# Altium footprint library con-fci.PCBLIB: 3 footprints
Each footprint in its own frame and in the unit in brackets; x right, y up, seen from the top. Pads: shape width x height; smd on the part's side, far side on the other; paste and mask are expansions set on the pad; w line width, h text height; cw(c..) or ccw(c..) is an arc to the next point about the centre after c.
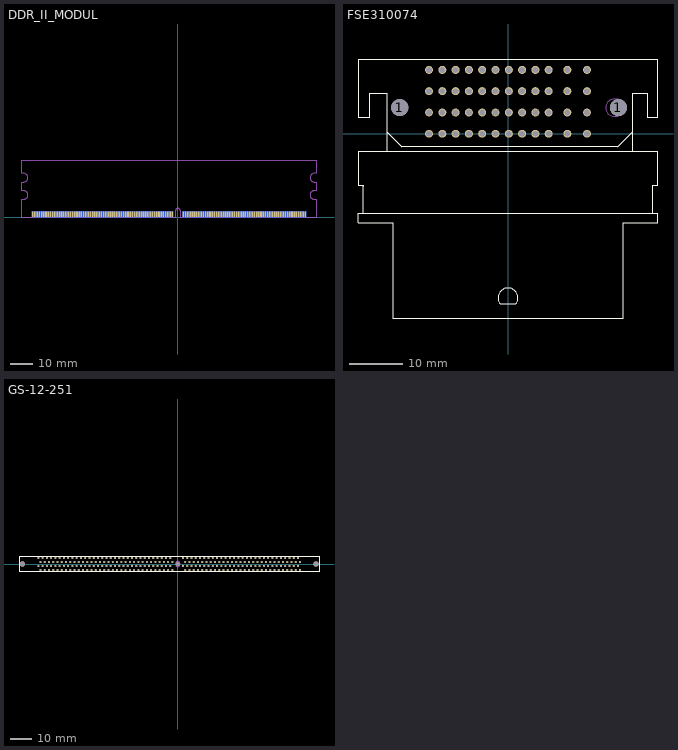
[diagram p0: the footprints below, top view; thin cyan lines are the x and y axes]

## DDR_II_MODUL [mm]
pads (240):
  rect 0.7x2.5 smd: 1(-65.5,1.3) 2(-64.5,1.3) 3(-63.5,1.3) 4(-62.5,1.3) 5(-61.5,1.3) 6(-60.5,1.3) 7(-59.5,1.3) 8(-58.5,1.3) 9(-57.5,1.3) 10(-56.5,1.3) 11(-55.5,1.3) 12(-54.5,1.3) 13(-53.5,1.3) 14(-52.5,1.3) 15(-51.5,1.3) 16(-50.5,1.3) 17(-49.5,1.3) 18(-48.5,1.3) 19(-47.5,1.3) 20(-46.5,1.3) 21(-45.5,1.3) 22(-44.5,1.3) 23(-43.5,1.3) 24(-42.5,1.3) 25(-41.5,1.3) 26(-40.5,1.3) 27(-39.5,1.3) 28(-38.5,1.3) 29(-37.5,1.3) 30(-36.5,1.3) 31(-35.5,1.3) 32(-34.5,1.3) 33(-33.5,1.3) 34(-32.5,1.3) 35(-31.5,1.3) 36(-30.5,1.3) 37(-29.5,1.3) 38(-28.5,1.3) 39(-27.5,1.3) 40(-26.5,1.3) 41(-25.5,1.3) 42(-24.5,1.3) 43(-23.5,1.3) 44(-22.5,1.3) 45(-21.5,1.3) 46(-20.5,1.3) 47(-19.5,1.3) 48(-18.5,1.3) 49(-17.5,1.3) 50(-16.5,1.3) 51(-15.5,1.3) 52(-14.5,1.3) 53(-13.5,1.3) 54(-12.5,1.3) 55(-11.5,1.3) 56(-10.5,1.3) 57(-9.5,1.3) 58(-8.5,1.3) 59(-7.5,1.3) 60(-6.5,1.3) 61(-5.5,1.3) 62(-4.5,1.3) 63(-3.5,1.3) 64(-2.5,1.3) 65(2.5,1.3) 66(3.5,1.3) 67(4.5,1.3) 68(5.5,1.3) 69(6.5,1.3) 70(7.5,1.3) 71(8.5,1.3) 72(9.5,1.3) 73(10.5,1.3) 74(11.5,1.3) 75(12.5,1.3) 76(13.5,1.3) 77(14.5,1.3) 78(15.5,1.3) 79(16.5,1.3) 80(17.5,1.3) 81(18.5,1.3) 82(19.5,1.3) 83(20.5,1.3) 84(21.5,1.3) 85(22.5,1.3) 86(23.5,1.3) 87(24.5,1.3) 88(25.5,1.3) 89(26.5,1.3) 90(27.5,1.3) 91(28.5,1.3) 92(29.5,1.3) 93(30.5,1.3) 94(31.5,1.3) 95(32.5,1.3) 96(33.5,1.3) 97(34.5,1.3) 98(35.5,1.3) 99(36.5,1.3) 100(37.5,1.3) 101(38.5,1.3) 102(39.5,1.3) 103(40.5,1.3) 104(41.5,1.3) 105(42.5,1.3) 106(43.5,1.3) 107(44.5,1.3) 108(45.5,1.3) 109(46.5,1.3) 110(47.5,1.3) 111(48.5,1.3) 112(49.5,1.3) 113(50.5,1.3) 114(51.5,1.3) 115(52.5,1.3) 116(53.5,1.3) 117(54.5,1.3) 118(55.5,1.3) 119(56.5,1.3) 120(57.5,1.3)
  rect 0.7x2.5 smd far side: 121(-65.5,1.3) 122(-64.5,1.3) 123(-63.5,1.3) 124(-62.5,1.3) 125(-61.5,1.3) 126(-60.5,1.3) 127(-59.5,1.3) 128(-58.5,1.3) 129(-57.5,1.3) 130(-56.5,1.3) 131(-55.5,1.3) 132(-54.5,1.3) 133(-53.5,1.3) 134(-52.5,1.3) 135(-51.5,1.3) 136(-50.5,1.3) 137(-49.5,1.3) 138(-48.5,1.3) 139(-47.5,1.3) 140(-46.5,1.3) 141(-45.5,1.3) 142(-44.5,1.3) 143(-43.5,1.3) 144(-42.5,1.3) 145(-41.5,1.3) 146(-40.5,1.3) 147(-39.5,1.3) 148(-38.5,1.3) 149(-37.5,1.3) 150(-36.5,1.3) 151(-35.5,1.3) 152(-34.5,1.3) 153(-33.5,1.3) 154(-32.5,1.3) 155(-31.5,1.3) 156(-30.5,1.3) 157(-29.5,1.3) 158(-28.5,1.3) 159(-27.5,1.3) 160(-26.5,1.3) 161(-25.5,1.3) 162(-24.5,1.3) 163(-23.5,1.3) 164(-22.5,1.3) 165(-21.5,1.3) 166(-20.5,1.3) 167(-19.5,1.3) 168(-18.5,1.3) 169(-17.5,1.3) 170(-16.5,1.3) 171(-15.5,1.3) 172(-14.5,1.3) 173(-13.5,1.3) 174(-12.5,1.3) 175(-11.5,1.3) 176(-10.5,1.3) 177(-9.5,1.3) 178(-8.5,1.3) 179(-7.5,1.3) 180(-6.5,1.3) 181(-5.5,1.3) 182(-4.5,1.3) 183(-3.5,1.3) 184(-2.5,1.3) 185(2.5,1.3) 186(3.5,1.3) 187(4.5,1.3) 188(5.5,1.3) 189(6.5,1.3) 190(7.5,1.3) 191(8.5,1.3) 192(9.5,1.3) 193(10.5,1.3) 194(11.5,1.3) 195(12.5,1.3) 196(13.5,1.3) 197(14.5,1.3) 198(15.5,1.3) 199(16.5,1.3) 200(17.5,1.3) 201(18.5,1.3) 202(19.5,1.3) 203(20.5,1.3) 204(21.5,1.3) 205(22.5,1.3) 206(23.5,1.3) 207(24.5,1.3) 208(25.5,1.3) 209(26.5,1.3) 210(27.5,1.3) 211(28.5,1.3) 212(29.5,1.3) 213(30.5,1.3) 214(31.5,1.3) 215(32.5,1.3) 216(33.5,1.3) 217(34.5,1.3) 218(35.5,1.3) 219(36.5,1.3) 220(37.5,1.3) 221(38.5,1.3) 222(39.5,1.3) 223(40.5,1.3) 224(41.5,1.3) 225(42.5,1.3) 226(43.5,1.3) 227(44.5,1.3) 228(45.5,1.3) 229(46.5,1.3) 230(47.5,1.3) 231(48.5,1.3) 232(49.5,1.3) 233(50.5,1.3) 234(51.5,1.3) 235(52.5,1.3) 236(53.5,1.3) 237(54.5,1.3) 238(55.5,1.3) 239(56.5,1.3) 240(57.5,1.3)
Mechanical 1:
  lines w0: -70.675,0 -1,0 -1,3 cw(c0,3) 0,4 cw(c0,3) 1,3 1,0 62.675,0 62.675,8 61.675,8 cw(c61.675,10) 59.675,10 cw(c61.675,10) 61.675,12 62.675,12 62.675,15.8 61.675,15.8 cw(c61.675,17.8) 59.675,17.8 cw(c61.675,17.8) 61.675,19.8 62.675,19.8 62.675,25.4 -70.675,25.4 -70.675,19.8 -69.675,19.8 cw(c-69.675,17.8) -67.675,17.8 cw(c-69.675,17.8) -69.675,15.8 -70.675,15.8 -70.675,12 -69.675,12 cw(c-69.675,10) -67.675,10 cw(c-69.675,10) -69.675,8 -70.675,8 -70.675,0

## FSE310074 [mm]
pads (50):
  round 3.2 hole 3.2: 1(-20.35,4.9) 1(20.75,4.9)
  round 1.5 hole 1.1: A1(-14.85,12) A2(-14.85,8) A3(-14.85,4) A4(-14.85,0) B1(-12.35,12) B2(-12.35,8) B3(-12.35,4) B4(-12.35,0) C1(-9.85,12) C2(-9.85,8) C3(-9.85,4) C4(-9.85,0) D1(-7.35,12) D2(-7.35,8) D3(-7.35,4) D4(-7.35,0) E1(-4.85,12) E2(-4.85,8) E3(-4.85,4) E4(-4.85,0) F1(-2.35,12) F2(-2.35,8) F3(-2.35,4) F4(-2.35,0) G1(0.15,12) G2(0.15,8) G3(0.15,4) G4(0.15,0) H1(2.65,12) H2(2.65,8) H3(2.65,4) H4(2.65,0) J1(5.15,12) J2(5.15,8) J3(5.15,4) J4(5.15,0) K1(7.65,12) K2(7.65,8) K3(7.65,4) K4(7.65,0) L1(11.15,12) L2(11.15,8) L3(11.15,4) L4(11.15,0) M1(14.85,12) M2(14.85,8) M3(14.85,4) M4(14.85,0)
Top Overlay:
  lines w0.2: -22.75,-3.4 -22.75,0.4 ; 23.45,-3.4 23.45,0.4 ; -22.75,0.4 -22.75,3.1 -22.75,7.575 -25.95,7.575 -25.95,3.1 -28.2,3.1 -28.2,13.925 28.2,13.925 28.2,3.1 26.15,3.1 26.15,7.6 23.45,7.6 23.45,0.4 ; -22.75,0.4 -19.95,-2.4 20.65,-2.4 23.45,0.4
  lines w0.203: -27.2,-14.9 -28.2,-14.9 -28.2,-16.7 -21.65,-16.7 -21.65,-34.7 21.65,-34.7 21.65,-16.925 21.65,-16.7 28.2,-16.7 28.2,-14.9 27.2,-14.9 ; -27.2,-14.9 -26.325,-14.9 27.2,-14.9 ; -27.2,-14.9 -27.2,-9.9 -27.2,-9.7 -28.2,-9.7 -28.2,-3.4 -22.75,-3.4 23.45,-3.4 28.2,-3.4 28.2,-9.7 27.2,-9.7 27.2,-9.725 27.2,-9.75 27.2,-9.9 27.2,-14.9 ; -1.5,-32 cw(c0,-30.875) 1.5,-32 -1.5,-32
Mechanical 1:
  lines w0.001: 20.75,3.3 19.95,3.3 cw(c19.95,4.9) 19.925,6.5 20.75,6.5

## GS-12-251 [mil]
pads (243):
  round 96.46 hole 96.46: 1(-2874.02,0) 1(2559.06,0)
  round 40 hole 27.56: 1(-2578.74,-37.4) 2(-2539.37,-112.2) 3(-2500,-37.4) 4(-2460.63,-112.2) 5(-2421.26,-37.4) 6(-2381.89,-112.2) 7(-2342.52,-37.4) 8(-2303.15,-112.2) 9(-2263.78,-37.4) 10(-2224.41,-112.2) 11(-2185.04,-37.4) 12(-2145.67,-112.2) 13(-2106.3,-37.4) 14(-2066.93,-112.2) 15(-2027.56,-37.4) 16(-1988.19,-112.2) 17(-1948.82,-37.4) 18(-1909.45,-112.2) 19(-1870.08,-37.4) 20(-1830.71,-112.2) 21(-1791.34,-37.4) 22(-1751.97,-112.2) 23(-1712.6,-37.4) 24(-1673.23,-112.2) 25(-1633.86,-37.4) 26(-1594.49,-112.2) 27(-1555.12,-37.4) 28(-1515.75,-112.2) 29(-1476.38,-37.4) 30(-1437.01,-112.2) 31(-1397.64,-37.4) 32(-1358.27,-112.2) 33(-1318.9,-37.4) 34(-1279.53,-112.2) 35(-1240.16,-37.4) 36(-1200.79,-112.2) 37(-1161.42,-37.4) 38(-1122.05,-112.2) 39(-1082.68,-37.4) 40(-1043.31,-112.2) 41(-1003.94,-37.4) 42(-964.57,-112.2) 43(-925.2,-37.4) 44(-885.83,-112.2) 45(-846.46,-37.4) 46(-807.09,-112.2) 47(-767.72,-37.4) 48(-728.35,-112.2) 49(-688.98,-37.4) 50(-649.61,-112.2) 51(-610.24,-37.4) 52(-570.87,-112.2) 53(-531.5,-37.4) 54(-492.13,-112.2) 55(-452.76,-37.4) 56(-413.39,-112.2) 57(-374.02,-37.4) 58(-334.65,-112.2) 59(-295.28,-37.4) 60(-255.91,-112.2) 61(-216.54,-37.4) 62(-177.17,-112.2) 63(-137.8,-37.4) 64(-98.43,-112.2) 65(98.43,-37.4) 66(137.8,-112.2) 67(177.17,-37.4) 68(216.54,-112.2) 69(255.91,-37.4) 70(295.28,-112.2) 71(334.65,-37.4) 72(374.02,-112.2) 73(413.39,-37.4) 74(452.76,-112.2) 75(492.13,-37.4) 76(531.5,-112.2) 77(570.87,-37.4) 78(610.24,-112.2) 79(649.61,-37.4) 80(688.98,-112.2) 81(728.35,-37.4) 82(767.72,-112.2) 83(807.09,-37.4) 84(846.46,-112.2) 85(885.83,-37.4) 86(925.2,-112.2) 87(964.57,-37.4) 88(1003.94,-112.2) 89(1043.31,-37.4) 90(1082.68,-112.2) 91(1122.05,-37.4) 92(1161.42,-112.2) 93(1200.79,-37.4) 94(1240.16,-112.2) 95(1279.53,-37.4) 96(1318.9,-112.2) 97(1358.27,-37.4) 98(1397.64,-112.2) 99(1437.01,-37.4) 100(1476.38,-112.2) 101(1515.75,-37.4) 102(1555.12,-112.2) 103(1594.49,-37.4) 104(1633.86,-112.2) 105(1673.23,-37.4) 106(1712.6,-112.2) 107(1751.97,-37.4) 108(1791.34,-112.2) 109(1830.71,-37.4) 110(1870.08,-112.2) 111(1909.45,-37.4) 112(1948.82,-112.2) 113(1988.19,-37.4) 114(2027.56,-112.2) 115(2066.93,-37.4) 116(2106.3,-112.2) 117(2145.67,-37.4) 118(2185.04,-112.2) 119(2224.41,-37.4) 120(2263.78,-112.2) 121(-2578.74,112.2) 122(-2539.37,37.4) 123(-2500,112.2) 124(-2460.63,37.4) 125(-2421.26,112.2) 126(-2381.89,37.4) 127(-2342.52,112.2) 128(-2303.15,37.4) 129(-2263.78,112.2) 130(-2224.41,37.4) 131(-2185.04,112.2) 132(-2145.67,37.4) 133(-2106.3,112.2) 134(-2066.93,37.4) 135(-2027.56,112.2) 136(-1988.19,37.4) 137(-1948.82,112.2) 138(-1909.45,37.4) 139(-1870.08,112.2) 140(-1830.71,37.4) 141(-1791.34,112.2) 142(-1751.97,37.4) 143(-1712.6,112.2) 144(-1673.23,37.4) 145(-1633.86,112.2) 146(-1594.49,37.4) 147(-1555.12,112.2) 148(-1515.75,37.4) 149(-1476.38,112.2) 150(-1437.01,37.4) 151(-1397.64,112.2) 152(-1358.27,37.4) 153(-1318.9,112.2) 154(-1279.53,37.4) 155(-1240.16,112.2) 156(-1200.79,37.4) 157(-1161.42,112.2) 158(-1122.05,37.4) 159(-1082.68,112.2) 160(-1043.31,37.4) 161(-1003.94,112.2) 162(-964.57,37.4) 163(-925.2,112.2) 164(-885.83,37.4) 165(-846.46,112.2) 166(-807.09,37.4) 167(-767.72,112.2) 168(-728.35,37.4) 169(-688.98,112.2) 170(-649.61,37.4) 171(-610.24,112.2) 172(-570.87,37.4) 173(-531.5,112.2) 174(-492.13,37.4) 175(-452.76,112.2) 176(-413.39,37.4) 177(-374.02,112.2) 178(-334.65,37.4) 179(-295.28,112.2) 180(-255.91,37.4) 181(-216.54,112.2) 182(-177.17,37.4) 183(-137.8,112.2) 184(-98.43,37.4) 185(98.43,112.2) 186(137.8,37.4) 187(177.17,112.2) 188(216.54,37.4) 189(255.91,112.2) 190(295.28,37.4) 191(334.65,112.2) 192(374.02,37.4) 193(413.39,112.2) 194(452.76,37.4) 195(492.13,112.2) 196(531.5,37.4) 197(570.87,112.2) 198(610.24,37.4) 199(649.61,112.2) 200(688.98,37.4) 201(728.35,112.2) 202(767.72,37.4) 203(807.09,112.2) 204(846.46,37.4) 205(885.83,112.2) 206(925.2,37.4) 207(964.57,112.2) 208(1003.94,37.4) 209(1043.31,112.2) 210(1082.68,37.4) 211(1122.05,112.2) 212(1161.42,37.4) 213(1200.79,112.2) 214(1240.16,37.4) 215(1279.53,112.2) 216(1318.9,37.4) 217(1358.27,112.2) 218(1397.64,37.4) 219(1437.01,112.2) 220(1476.38,37.4) 221(1515.75,112.2) 222(1555.12,37.4) 223(1594.49,112.2) 224(1633.86,37.4) 225(1673.23,112.2) 226(1712.6,37.4) 227(1751.97,112.2) 228(1791.34,37.4) 229(1830.71,112.2) 230(1870.08,37.4) 231(1909.45,112.2) 232(1948.82,37.4) 233(1988.19,112.2) 234(2027.56,37.4) 235(2066.93,112.2) 236(2106.3,37.4) 237(2145.67,112.2) 238(2185.04,37.4) 239(2224.41,112.2) 240(2263.78,37.4)
  round 70.87 hole 70.87: 1(0,0)
Top Overlay:
  lines w8: -2937.01,-145.67 -2937.01,145.67 2614.17,145.67 2614.17,-145.67 -2937.01,-145.67
Mechanical 1:
  lines w0: -35.43,-12.8 ccw(c0,-12.8) 0,-48.23 ccw(c0,-12.8) 35.43,-12.8 35.43,12.8 ccw(c0,12.8) 0,48.23 ccw(c0,12.8) -35.43,12.8 -35.43,-12.8